# Altium schematic symbol library Schlib1.SchLib: 31 symbols
Pins are listed as number, name and electrical type; pins without a type are passive.

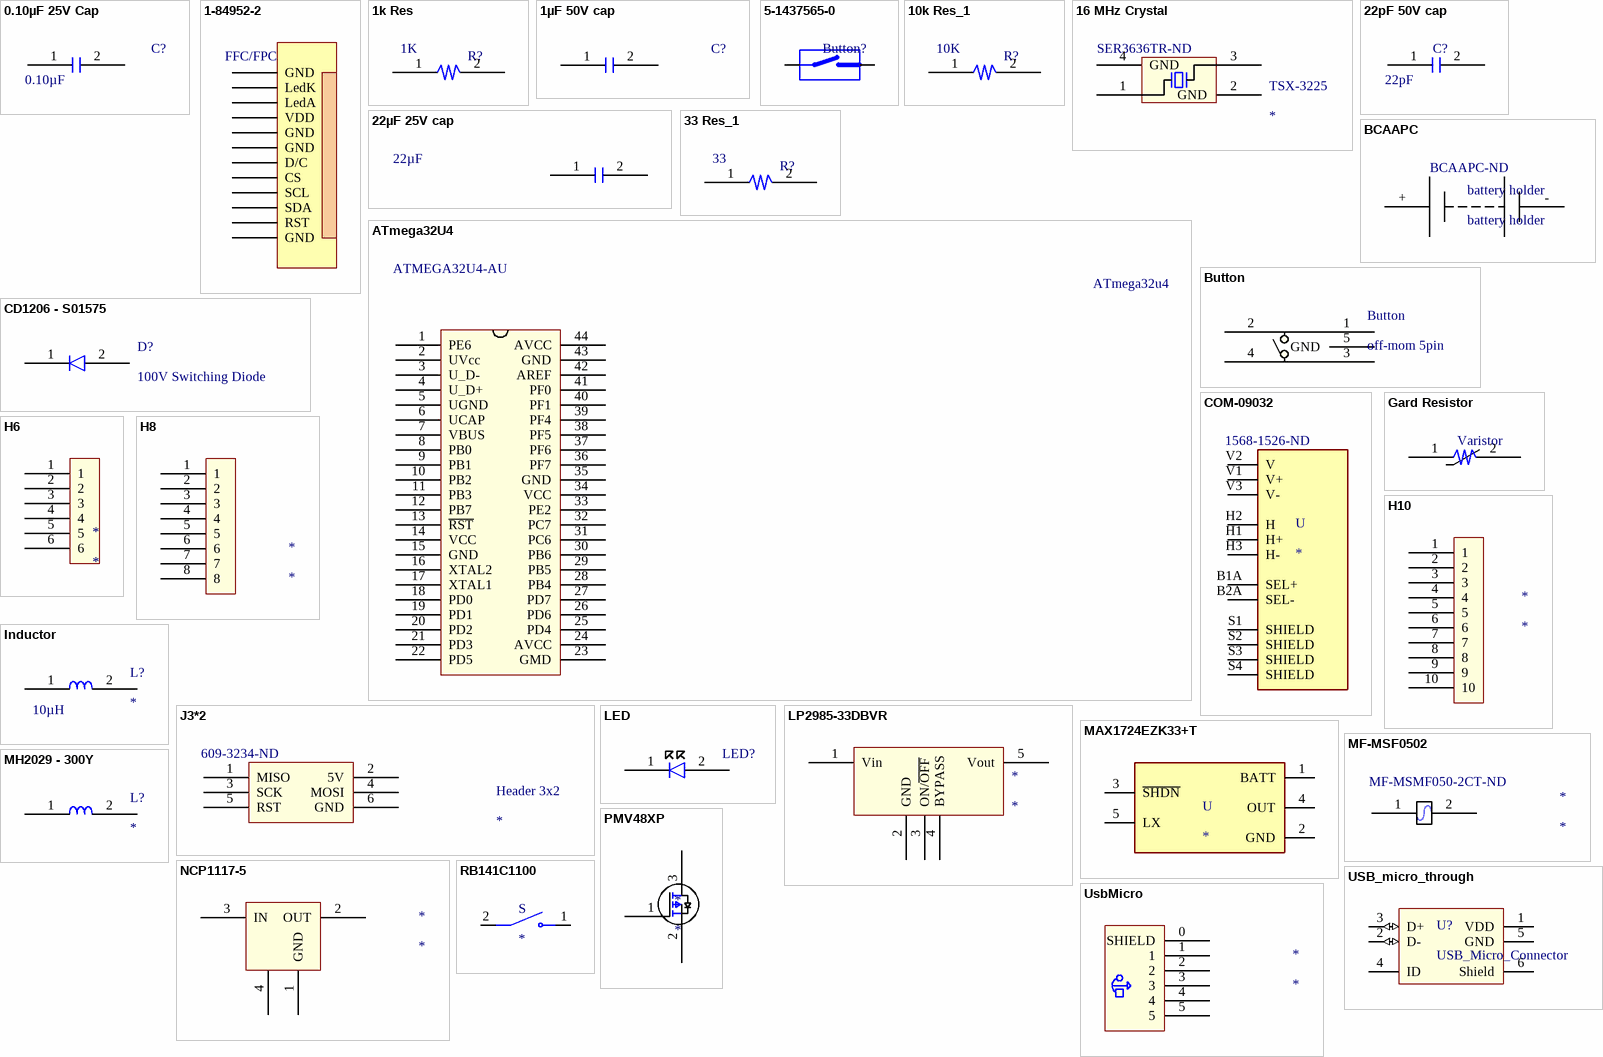
[diagram p0: symbols 0.10µF 25V Cap to UsbMicro]

## 0.10µF 25V Cap
designator C?, comment value 0.10µF  (hidden comment: 0.10µ 25V)
Details: 0.10µF ±10% 25V Ceramic Capacitor X7R 0805 (2012 Metric); Type: Ceramic Capacitor; Footprint: 0805 (2012 Metric) -X7R; Supplier 1: Digi-Key; Supplier Part Number 1: 399-1168-1-ND
footprint R15_0805_cap_M (R15_cap_M)
footprint 0805_CAP (0805 Footprint)
pins: 1, 2

## 1-84952-2
designator FFC/FPC  (value not drawn)
Supplier 1: Digi-Key; Category: FFC/FPC CONNECTOR; Supplier Part Number 1: A100251CT-ND
pins: 1  GND, 2 LedK, 3 LedA, 5 GND, 6 GND, 7 D/C, 8 CS, 9 SCL, 10 VDD, 10 SDA, 11 RST, 12 GND

## 1k Res
designator R?, comment value 1K  (hidden comment: Res)
Resistor 0805; Type: Resistor; Supplier 1: Digi-Key; Supplier Part Number 1: A129749CT-ND
footprint RNCP0805_M
pins: 1, 2

## 1µF 50V cap
designator C?  (value not drawn)
Type: Capacitor (ceramic); Value: 1µF; Supplier 1: Digi-Key; Supplier Part Number 1: 445-8890-1-ND
footprint C2012_M (C2012X7R1H105K125AE)
pins: 1, 2

## 5-1437565-0
designator Button?  (value not drawn)
Switch Push Button N.O. SPST Round Button 0.05A 12VDC 1VA Alternate Contact Gull Wing SMD T/R; MP: FSM6JSMATR; MF: TE Connectivity; SnapEDA_Link: https://www.snapeda.com/parts/FSM6JSMATR/TE%20Connectivity%20ALCOSWITCH%20Switches/view-part/518064/?ref=snap; Price: None; TE_purchase_URL: https://www.te.com/usa-en/product-5-1437565-0.html?te_bu=Cor&te_type=disp&te_campaign=seda_glo_cor-seda-global-disp-prtnr-fy19-seda-model-bom-cta_sma-317_1&elqCampaignId=32493; Value: *; Availability: Unavailable; Package: None; Supplier 1: Digi-Key; Supplier Part Number 1: 450-2058-1-ND; Type: Button
footprint SW_5-1437565-0
pins: 1 2, 2, 3 1, 4 1

## 10k Res_1
designator R?, comment value 10K  (hidden comment: Res)
Resistor 0805; Supplier 1: Digi-Key; Supplier Part Number 1: CR0805-JW-103ELFDKR-ND; Type: Resistor
footprint RNCP0805_M
pins: 1, 2

## 16 MHz Crystal
designator TSX-3225  Supplier Part Number 1: SER3636TR-ND
Supplier 1: Digi-Key; ComponentLink1Description: New link; ComponentLink1URL: *
footprint TSX-3225 (SER4069CT)
pins: 1, 2 GND, 3, 4 GND

## 22pF 50V cap
designator C?  value 22pF  (hidden comment: *)
Type: Capacitor (ceramic); Supplier 1: Digi-Key; Supplier Part Number 1: 490-5868-1-ND
footprint R15_0805_cap_M (R15_cap_M)
footprint 0805_CAP (0805 Footprint)
pins: 1, 2

## 22µF 25V cap
designator 22µF  (value not drawn)
footprint X5R_22uF_25v_1206_X_M
pins: 1, 2

## 33 Res_1
designator R?, comment value 33  (hidden comment: Res)
Resistor 0805; Type: Resistor; Supplier 1: Digi-Key; Supplier Part Number 1: 118-CR0805-FX-33R0ELFCT-ND
footprint RNCP0805_M
pins: 1, 2

## ATmega32U4
designator ATmega32u4, comment Supplier Part Number 1: ATMEGA32U4-AU  (hidden comment: ATmega32u4)
Supplier 1: Avnet
footprint ATmega32u4_TQFP44 (ATmega32u4_TQFP44_M)
pins: 1 PE6, 2 UVcc, 3 U_D-, 4 U_D+, 5 UGND, 6 UCAP, 7 VBUS, 8 PB0, 9 PB1, 10 PB2, 11 PB3, 12 PB7, 13 ~{RST}, 14 VCC, 15 GND, 16 XTAL2, 17 XTAL1, 18 PD0, 19 PD1, 20 PD2, 21 PD3, 22 PD5, 23 GMD, 24 AVCC, 25 PD4, 26 PD6, 27 PD7, 28 PB4, 29 PB5, 30 PB6, 31 PC6, 32 PC7, 33 PE2, 34 VCC, 35 GND, 36 PF7, 37 PF6, 38 PF5, 39 PF4, 40 PF1, 41 PF0, 42 AREF, 43 GND, 44 AVCC

## BCAAPC
designator battery holder, comment battery holder  Supplier Part Number 1: BCAAPC-ND
Supplier 1: Digi-Key; Type: Battery holder
pins: +, -

## Button
designator Button, comment off-mom 5pin
Supplier 1: Digi-Key; Supplier Part Number 1: 450-1760-1-ND; Type: Button
footprint 450-1760 (Button off-mom)
pins: 1, 2, 3, 4, 5 GND

## CD1206 - S01575
designator D?, comment 100V Switching Diode
Standard Diode; Supplier 1: Digi-Key; Supplier 2: Arrow; Supplier Part Number 2: CD1206-S01575; Supplier Part Number 1: CD0603-S01575CT-ND
footprint C2012_M (C2012X7R1H105K125AE)
footprint CD1206-S01575 (Switching Chip Diode, 2-Leads, Body 3.20x1.50mm, IPC Medium Density)
pins: 1, 2

## COM-09032
designator U  Supplier Part Number 1: 1568-1526-ND
Joystick, 2 - Axis Analog _Resistive_ Output; MF: SparkFun Electronics; MP: COM-09032; SnapEDA_Link: https://www.snapeda.com/parts/COM-09032/SparkFun%20Electronics/view-part/888157/?ref=snap; Availability: Unavailable; Value: *; Price: None; Package: SparkFun Electronics; Supplier 1: Digi-Key
footprint XDCR_COM-09032
pins: B1A SEL+, B2A SEL-, H1 H+, H2 H, H3 H-, S1 SHIELD, S2 SHIELD, S3 SHIELD, S4 SHIELD, V1 V+, V2 V, V3 V-

## Gard Resistor
designator Varistor  (value not drawn)
Gard Resistor; Supplier 1: Digi-Key; Supplier Part Number 1: 478-2504-1-ND; Type: Varistor
footprint UltraGuard 0805
pins: 1, 2

## H6
designator *
Header 6*1
footprint H6 (header 6*1)
pins: 1, 2, 3, 4, 5, 6

## H8
designator *
Header 8*1
footprint H8 (header 8*1)
pins: 1, 2, 3, 4, 5, 6, 7, 8

## H10
designator *
Header 10*1
footprint H10 (header 10*1)
pins: 1, 2, 3, 4, 5, 6, 7, 8, 9, 10

## Inductor
designator L?  value 10µH
Type: Inductor; Supplier 1: Digi-Key; Supplier Part Number 1: 732-10757-1-ND
footprint MH2029-300YC (Ferrite bead 0805)
pins: 1, 2

## J3*2
designator Header 3x2  Supplier Part Number 1: 609-3234-ND
Header 3*2; Supplier 1: Digi-Key
footprint J3*2 (AVR ISP pinouts 6 pin)
pins: 1 MISO, 2 5V, 3 SCK, 4 MOSI, 5 RST, 6 GND

## LED
designator LED?  (value not drawn)
LED 0805; Color: RED; Type: LED; Supplier 1: Digi-Key; Supplier Part Number 1: 732-4984-1-ND
footprint Wurth led 0805
pins: 1, 2

## LP2985-33DBVR
designator *
3.3V reg
footprint LP2985_SOT23_M
pins: 1 Vin, 2 GND, 3 ON/~{OFF}, 4 BYPASS, 5 Vout

## MAX1724EZK33+T
designator U
Boost Switching Regulator IC Positive Fixed 3.3V 1 Output 400mA _Switch_ SOT-23-5 Thin, TSOT-23-5; MF: Maxim Integrated; MP: MAX1724EZK33+T; Value: *; SnapEDA_Link: https://www.snapeda.com/parts/MAX1724EZK33%2BT/Maxim%20Integrated/view-part/571456/?ref=snap; Package: SOT-23-5 Maxim; Availability: Unavailable; Price: None; Type: Regulator
footprint SOT95P275X110-5N
pins: 1 BATT (power), 2 GND (power), 3 ~{SHDN}, 4 OUT, 5 LX

## MF-MSF0502
designator *  Supplier Part Number 1: MF-MSMF050-2CT-ND
Resetable fuse; Supplier 1: Digi-Key
footprint MF-MSMF050_M
pins: 1, 2

## MH2029 - 300Y
designator L?
Ferrite bead; Value: 30@10MHz; Supplier 1: Digi-Key; Supplier Part Number 1: MH2029-300YCT-ND; Type: Ferrite
footprint MH2029-300YC (Ferrite bead 0805)
pins: 1, 2

## NCP1117-5
designator *
5V reg
footprint NCP1117_SOT223 (NCP1117_SOT223_M)
pins: 1 GND, 2 OUT, 3 IN, 4 tab

## PMV48XP
designator *
P type MOSFET
footprint PMV48XP_SOT23 (PMV48XP_SOT23_M)
pins: 1 G, 2 S, 3 D

## RB141C1100
designator S
Rocker Switch SPST 15A _AC_ 125V Panel Mount, Snap-In; MP: RB141C1100; MF: E-Switch; Package: None; Availability: Unavailable; SnapEDA_Link: https://www.snapeda.com/parts/RB141C1100/E-Switch/view-part/4449618/?ref=snap; Price: None; Value: *; Supplier 1: Digi-Key; Supplier Part Number 1: EG5637-ND
footprint SW_RB141C1100
pins: 1, 2

## USB_micro_through
designator U?, comment USB_Micro_Connector
CONN USB MICRO B RECPT SMT R/A; Manufacturer Part Number: 10118194-0001LF; 01 Created By: David Lynch @ 30/11/2017; 02 Reviewed By: Rodrigo Maureira @ 14/01/2018; Supplier Part Number 1: 609-4618-1-ND; Digikey URL: https://www.digikey.com.au/product-detail/en/amphenol-fci/10118194-0001LF/609-4618-1-ND/2785382; Supplier 1: Digi-Key
footprint USB_micro_through
pins: 1 VDD (power), 2 D- (io), 3 D+ (io), 4 ID, 5 GND (power), 6 Shield

## UsbMicro
designator *
Micro Usb
footprint USB
pins: 0 SHIELD, 1, 2, 3, 4, 5